# Altium integrated library XTAL_SMD3.2_2.5_3D.IntLib: 1 symbol
Pins are listed as number, name and electrical type; pins without a type are passive.

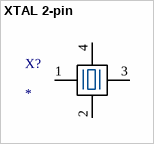
[diagram p0: symbol XTAL 2-pin]

## XTAL 2-pin
designator X?
footprint XTAL_3.2_2.5
pins: 1, 2, 3, 4